# Altium schematic symbol library IQXO-984.SchLib: 1 symbol
Pins are listed as number, name and electrical type; pins without a type are passive.

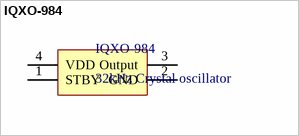
[diagram p0: symbol IQXO-984]

## IQXO-984
designator IQXO-984, comment 32kHz Crystal oscillator
footprint IQXO-984
pins: 1 STBY, 2 GND, 3 Output, 4 VDD